# Altium schematic symbol library BreakoutLib.SchLib: 2 symbols
Pins are listed as number, name and electrical type; pins without a type are passive.

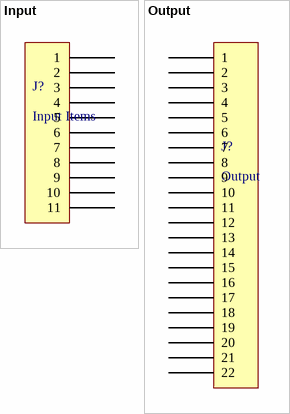
[diagram p0: symbols Input to Output]

## Input
designator J?, comment Input Items
footprint Input
pins: 1, 2, 3, 4, 5, 6, 7, 8, 9, 10, 11

## Output
designator J?
footprint Output
pins: 1, 2, 3, 4, 5, 6, 7, 8, 9, 10, 11, 12, 13, 14, 15, 16, 17, 18, 19, 20, 21, 22